# Altium schematic symbol library TH Optoelectronics.SchLib: 24 symbols
Pins are listed as number, name and electrical type; pins without a type are passive.

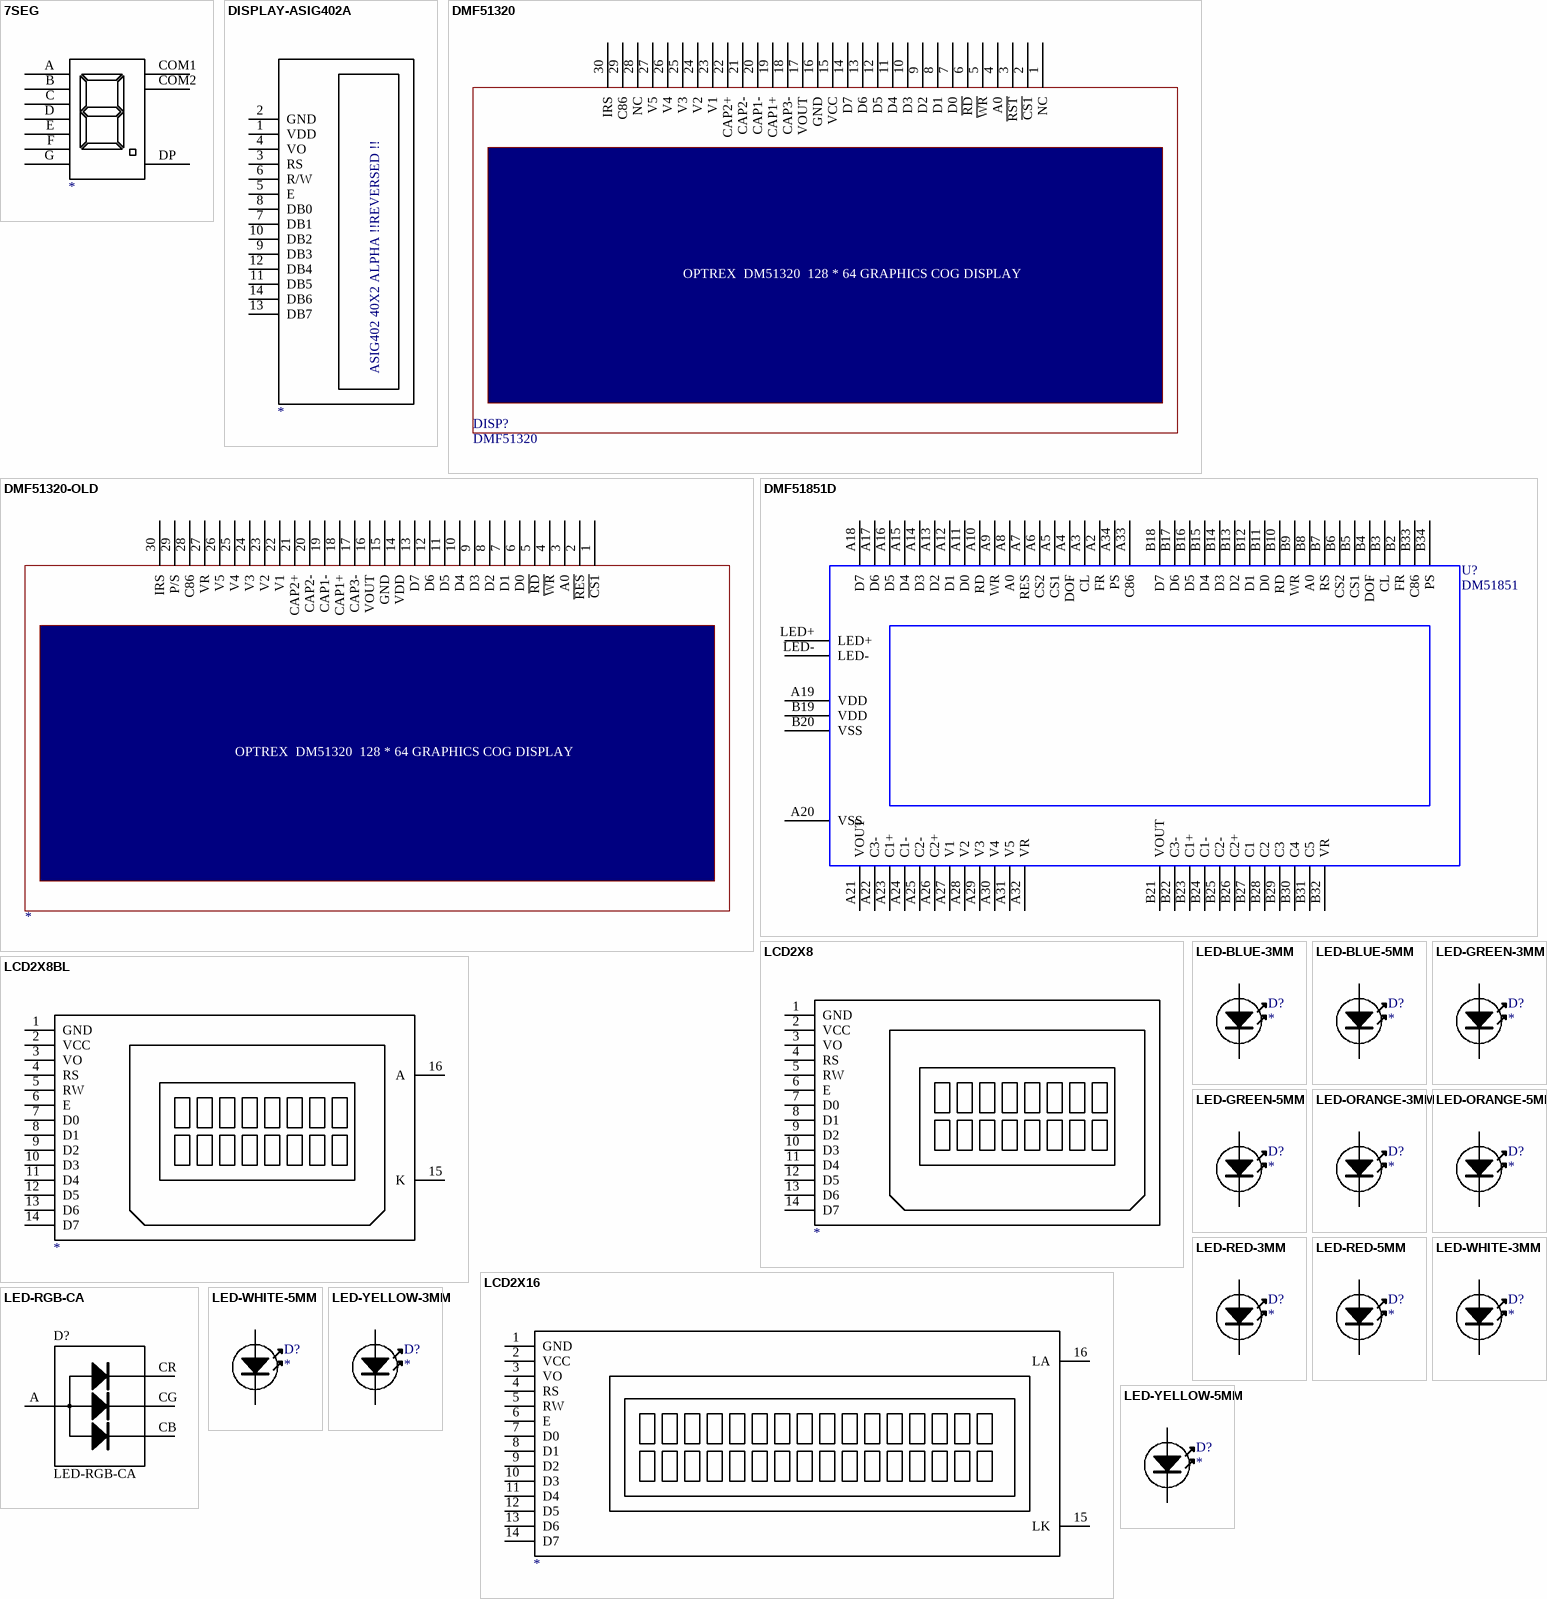
[diagram p0: symbols 7SEG to LED-YELLOW-5MM]

## 7SEG
designator ?
pins: A, B, C, COM1, COM2, D, DP, E, F, G

## DISPLAY-ASIG402A
designator ?
pins: 1 VDD, 2 GND, 3 RS, 4 VO, 5 E, 6 R/W, 7 DB1, 8 DB0, 9 DB3, 10 DB2, 11 DB5, 12 DB4, 13 DB7, 14 DB6
text: ASIG402 40X2 ALPHA !!REVERSED !!

## DMF51320
designator DISP?
pins: 1 NC, 2 ~{CS1}, 3 ~{RST}, 4 A0, 5 ~{WR}, 6 ~{RD}, 7 D0, 8 D1, 9 D2, 10 D3, 11 D4, 12 D5, 13 D6, 14 D7, 15 VCC, 16 GND, 17 VOUT, 18 CAP3-, 19 CAP1+, 20 CAP1-, 21 CAP2-, 22 CAP2+, 23 V1, 24 V2, 25 V3, 26 V4, 27 V5, 28 NC, 29 C86, 30 IRS
text: OPTREX  DM51320  128 * 64 GRAPHICS COG DISPLAY

## DMF51320-OLD
designator ?
pins: 1 ~{CS1}, 2 ~{RES}, 3 A0, 4 ~{WR}, 5 ~{RD}, 6 D0, 7 D1, 8 D2, 9 D3, 10 D4, 11 D5, 12 D6, 13 D7, 14 VDD, 15 GND, 16 VOUT, 17 CAP3-, 18 CAP1+, 19 CAP1-, 20 CAP2-, 21 CAP2+, 22 V1, 23 V2, 24 V3, 25 V4, 26 V5, 27 VR, 28 C86, 29 P/S, 30 IRS
text: OPTREX  DM51320  128 * 64 GRAPHICS COG DISPLAY

## DMF51851D
designator U?, comment DM51851
DM51851 DISPLAY 240X64
footprint F51851
pins: A2 FR, A3 CL, A4 DOF, A5 CS1, A6 CS2, A7 RES, A8 A0, A9 WR, A10 RD, A11 D0, A12 D1, A13 D2, A14 D3, A15 D4, A16 D5, A17 D6, A18 D7, A19 VDD, A20 VSS, A21 VOUT, A22 C3-, A23 C1+, A24 C1-, A25 C2-, A26 C2+, A27 V1, A28 V2, A29 V3, A30 V4, A31 V5, A32 VR, A33 C86, A34 PS, B2 FR, B3 CL, B4 DOF, B5 CS1, B6 CS2, B7 RS, B8 A0, B9 WR, B10 RD, B11 D0, B12 D1, B13 D2, B14 D3, B15 D4, B16 D5, B17 D6, B18 D7, B19 VDD, B20 VSS, B21 VOUT, B22 C3-, B23 C1+, B24 C1-, B25 C2-, B26 C2+, B27 C1, B28 C2, B29 C3, B30 C4, B31 C5, B32 VR, B33 C86, B34 PS, LED+, LED-

## LCD2X8
designator ?
footprint LCD2x8
pins: 1 GND, 2 VCC, 3 VO, 4 RS, 5 RW, 6 E, 7 D0, 8 D1, 9 D2, 10 D3, 11 D4, 12 D5, 13 D6, 14 D7

## LCD2X8BL
designator ?
footprint LCD2x8BL
pins: 1 GND, 2 VCC, 3 VO, 4 RS, 5 RW, 6 E, 7 D0, 8 D1, 9 D2, 10 D3, 11 D4, 12 D5, 13 D6, 14 D7, 15 K, 16 A

## LCD2X16
designator ?
pins: 1 GND, 2 VCC, 3 VO, 4 RS, 5 RW, 6 E, 7 D0, 8 D1, 9 D2, 10 D3, 11 D4, 12 D5, 13 D6, 14 D7, 15 LK, 16 LA

## LED-BLUE-3MM
designator D?
LED-BLUE-3MM
footprint LED-3MM-BLUE
pins: A, K

## LED-BLUE-5MM
designator D?
LED-BLUE-5MM
footprint LED-5MM-BLUE
pins: A, K

## LED-GREEN-3MM
designator D?
LED-GREEN-3MM
footprint LED-3MM-GREEN
pins: A, K

## LED-GREEN-5MM
designator D?
LED-GREEN-5MM
footprint LED-5MM-GREEN
pins: A, K

## LED-ORANGE-3MM
designator D?
LED-ORANGE-3MM
footprint LED-3MM-ORANGE
pins: A, K

## LED-ORANGE-5MM
designator D?
LED-ORANGE-5MM
footprint LED-5MM-ORANGE
pins: A, K

## LED-RED-3MM
designator D?
LED-RED-3MM
footprint LED-3MM-RED
pins: A, K

## LED-RED-5MM
designator D?
LED-RED-5MM
footprint LED-5MM-RED
pins: A, K

## LED-RGB-CA
designator D?
footprint LED-5MMRGBCA
pins: A, CB, CG, CR

## LED-WHITE-3MM
designator D?
LED-WHITE-3MM
footprint LED-3MM-WHITE
pins: A, K

## LED-WHITE-5MM
designator D?
LED-WHITE-5MM
footprint LED-5MM-WHITE
pins: A, K

## LED-YELLOW-3MM
designator D?
LED-YELLOW-3MM
footprint LED-3MM-YELLOW
pins: A, K

## LED-YELLOW-5MM
designator D?
LED-YELLOW-5MM
footprint LED-5MM-YELLOW
pins: A, K

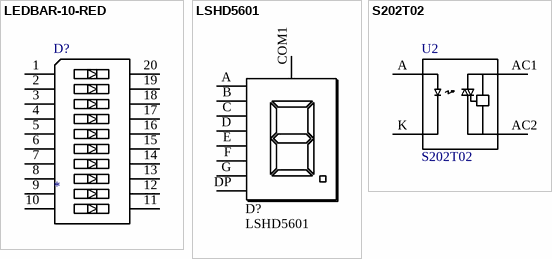
[diagram p1: symbols LEDBAR-10-RED to S202T02]

## LEDBAR-10-RED
designator D?
Supplier 1: Mouser; Supplier Part Number 1: 604-DC10GWA
footprint LEDBAR-10-RED
pins: 1, 2, 3, 4, 5, 6, 7, 8, 9, 10, 11, 12, 13, 14, 15, 16, 17, 18, 19, 20

## LSHD5601
designator D?
Supplier 1: Mouser; Supplier Part Number 1: 859-LSHD-5601
footprint LSHD5601
pins: A, B, C, COM1, D, DP, E, F, G

## S202T02
designator U2
Supplier 1: Digi-Key; Supplier 2: Digi-Key; Supplier Part Number 2: 425-2409-5-ND
footprint S202T02
pins: A, AC1, AC2, K